# Altium footprint library CSAB0420 Series.PcbLib: 1 footprints
Each footprint in its own frame and in the unit in brackets; x right, y up, seen from the top. Pads: shape width x height; smd on the part's side, far side on the other; paste and mask are expansions set on the pad; w line width, h text height; cw(c..) or ccw(c..) is an arc to the next point about the centre after c.
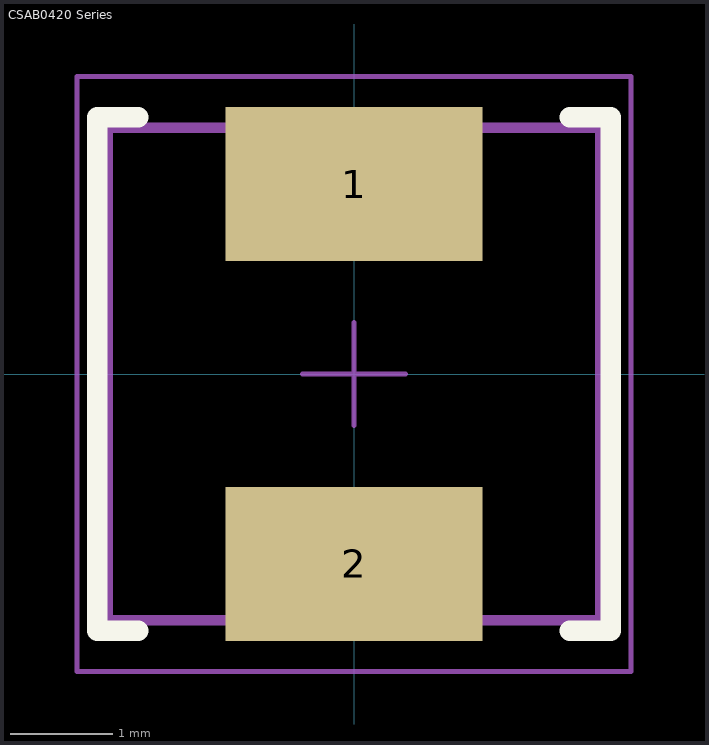
[diagram p0: the footprint, top view; thin cyan lines are the x and y axes]

## CSAB0420 Series [mm] "SMT Power Inductor, body 4.8x4.8mm"
height 2
pads (2):
  rect 2.5x1.5 smd: 1(0,1.85) 2(0,-1.85)
Top Overlay:
  lines w0.2: -2.1,-2.5 -2.5,-2.5 -2.5,2.5 -2.1,2.5 ; 2.1,-2.5 2.5,-2.5 2.5,2.5 2.1,2.5
Mechanical 13:
  lines w0.1: -2.4,-2.4 2.4,-2.4 2.4,2.4 -2.4,2.4 -2.4,-2.4
Mechanical 15:
  lines w0.05: -0.5,0 0.5,0 ; 0,-0.5 0,0.5 ; -2.7,-2.9 -2.7,2.9 2.7,2.9 2.7,-2.9 -2.7,-2.9
3D body "4818_74406042.stp": height 1.8, standoff 0, extent -2.4,-2.4 2.4,2.4